# Altium schematic symbol library homod_gen.SchLib: 13 symbols
Pins are listed as number, name and electrical type; pins without a type are passive.

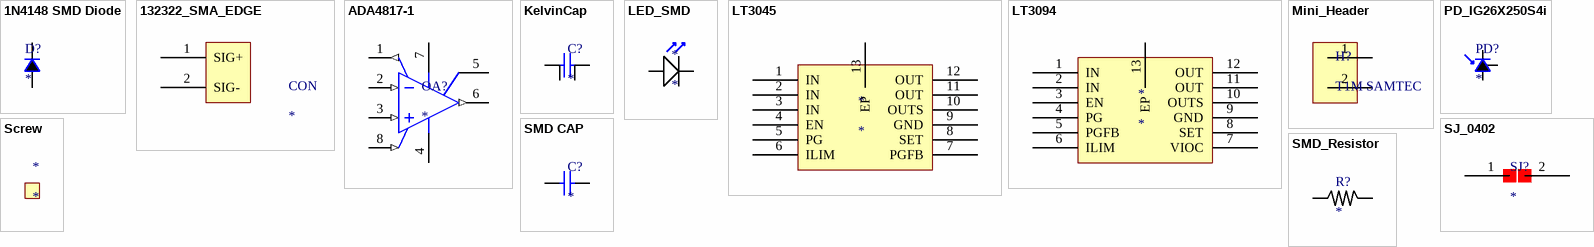
[diagram p0: symbols 1N4148 SMD Diode to SMD_Resistor]

## 1N4148 SMD Diode
designator D?
RS: 761-3476
footprint 1N4148_SMD DIODE (Reverse protection diode)
pins: 1 33 (power), 2 34 (power)

## 132322_SMA_EDGE
designator CON
footprint SMA_EDGE (SMA RF Board Edge Connector)
pins: 1 SIG+ (power), 2 SIG- (power)

## ADA4817-1
designator OA?
footprint ADA4817-SOP (SOP, 8-Leads, Body 4.90x3.90mm, Pitch 1.27mm, IPC Medium Density)
pins: 1 FB (out) "Feedback Pin.", 2 -IN (in) "Inverting Input.", 3 +IN (in) "Noninverting Input.", 4 -VS (power) "Negative Supply.", 5 NC "No Connect.", 6 OUT (out) "Output.", 7 +VS (power) "Positive Supply.", 8 ~{PD} (in) "Power-Down. Do not leave floating."

## KelvinCap
designator C?
footprint Kelvin1206
pins: 1, 2 (power), 3 2, 4 (power)

## LED_SMD
designator *
footprint Red_LED SMD (RS #  654-5818)
pins: 1 + (power), 2 + (power)

## LT3045
designator *
footprint LT3045/3094 (MSOP-12)
pins: 1 IN (power), 2 IN (power), 3 IN (power), 4 EN (power), 5 PG (power), 6 ILIM (power), 7 PGFB (power), 8 SET (power), 9 GND (power), 10 OUTS (power), 11 OUT (power), 12 OUT (power), 13 EP (power)

## LT3094
designator *
footprint LT3045/3094 (MSOP-12)
pins: 1 IN (power), 2 IN (power), 3 EN (power), 4 PG (power), 5 PGFB (power), 6 ILIM (power), 7 VIOC (power), 8 SET (power), 9 GND (power), 10 OUTS (power), 11 OUT (power), 12 OUT (power), 13 EP (power)

## Mini_Header
designator H?, comment T1M SAMTEC
footprint Mini_Header
pins: 1 (power), 2 (power)

## PD_IG26X250S4i
designator PD?
footprint IG26X250S4i (InGaAs)
pins: 1 Anode (power), 2 GND/CASE (power), 3 Cathode (power)

## Screw
designator *
footprint M3_Screw
footprint M2_SCREW

## SJ_0402
designator SJ?
footprint Solder_Jumper
pins: 1 (power), 2 (power)

## SMD CAP
designator C?
footprint 0402CAP (0402 Package SMD Capacitor)
footprint 0805CAP (0805 Package SMD Capacitor)
footprint 1206CAP (1206 Package SMD Capacitor)
pins: 1, 2

## SMD_Resistor
designator R?
footprint SMD_RES_0402 (0402 Package SMD Resistor)
footprint 1206CAP (1206 Package SMD Capacitor)
pins: 1 (power), 2 (power)